# Altium footprint library PDSO-8.PcbLib: 1 footprints
Each footprint in its own frame and in the unit in brackets; x right, y up, seen from the top. Pads: shape width x height; smd on the part's side, far side on the other; paste and mask are expansions set on the pad; w line width, h text height; cw(c..) or ccw(c..) is an arc to the next point about the centre after c.
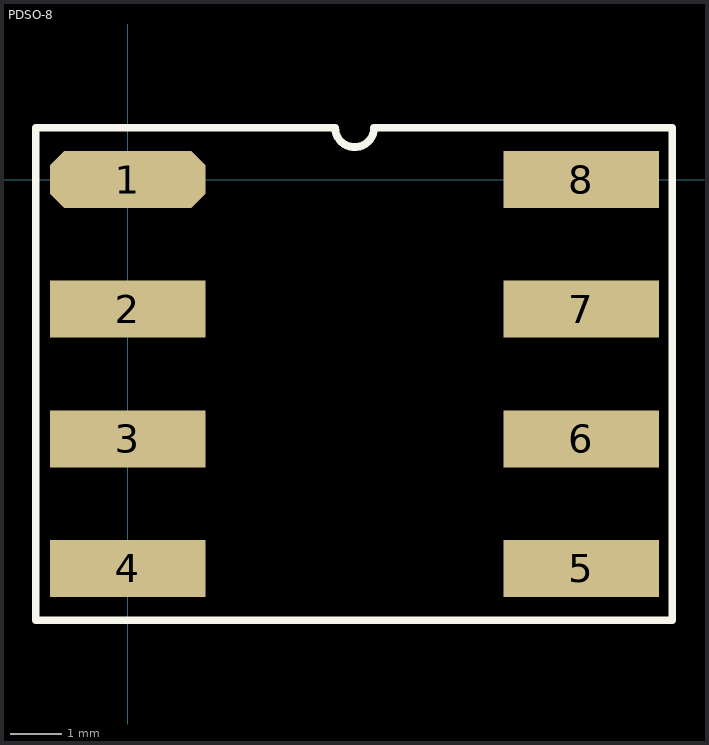
[diagram p0: the footprint, top view; thin cyan lines are the x and y axes]

## PDSO-8 [mil]
pads (8):
  oct 120x44 smd: 1(0,0)
  rect 120x44 smd: 2(0,-100) 3(0,-200) 4(0,-300) 5(350,-300) 6(350,-200) 7(350,-100) 8(350,0)
Top Overlay:
  lines w6: -71,-340 -71,40 160,40 ccw(c175,40) 190,40 420,40 420,-340 -71,-340
3D body "DUB-8.STEP": height 168.39, standoff 2.92, extent -33.7,-337.01 380,37.01